# Altium schematic symbol library 3386P-1-473LF.SchLib: 1 symbol
Pins are listed as number, name and electrical type; pins without a type are passive.

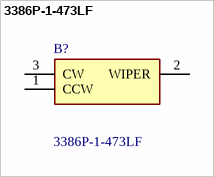
[diagram p0: symbol 3386P-1-473LF]

## 3386P-1-473LF
designator B?
Trimmer Resistors - Through Hole 3/8" 47Kohms 10% 0.5Watts Square; Manufacturer_Name: Bourns; Geometry.Height: 5.08mm; Mouser Part Number: 652-3386P-1-473LF; Mouser Price/Stock: https://www.mouser.co.uk/ProductDetail/Bourns/3386P-1-473LF?qs=g1MxsQ5vwlQqJF6lV59CvQ%3D%3D; Manufacturer_Part_Number: 3386P-1-473LF; Datasheet Link: https://www.bourns.com/docs/Product-Datasheets/3386.pdf
footprint 3386P1473LF
pins: 1 CCW, 2 WIPER, 3 CW